# Altium schematic symbol library Crystals SMD.SchLib: 3 symbols
Pins are listed as number, name and electrical type; pins without a type are passive.

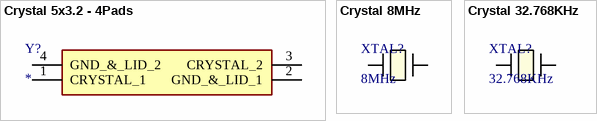
[diagram p0: symbols Crystal 5x3.2 - 4Pads to Crystal 32.768KHz]

## Crystal 5x3.2 - 4Pads
designator Y?
Crystal or Oscillator; Manufacturer_Name: Wurth Elektronik; Manufacturer_Part_Number: 830106162701; Description: Crystals WE-XTAL 8.0MHz 30ppm 5.0 x 3.2mm; Datasheet Link: https://www.we-online.com/components/products/datasheet/830106162701.pdf; Height: 1mm; Mouser Part Number: 710-830106162701; Mouser Price/Stock: https://www.mouser.co.uk/ProductDetail/Wurth-Elektronik/830106162701?qs=hd1VzrDQEGiB2nVeND4SIw%3D%3D
footprint Crystal 5x3.2 - 4Pads
pins: 1 CRYSTAL_1, 2 GND_&_LID_1, 3 CRYSTAL_2, 4 GND_&_LID_2

## Crystal 8MHz
designator XTAL?, comment 8MHz
5032; Mfr_Name: Epson; Manufacturer_Part_Number: SC32A-12.5PF20PPM; Copyright: Copyright (C) 2024 Ultra Librarian. All rights reserved.; RefDes: RefDes; Type: DEV
footprint Crystal 8MHz (5032)
pins: 1, 2

## Crystal 32.768KHz
designator XTAL?, comment 32.768KHz
3.2mmx1.5mm; Mfr_Name: Epson; Manufacturer_Part_Number: SC32A-12.5PF20PPM; Copyright: Copyright (C) 2024 Ultra Librarian. All rights reserved.; RefDes: RefDes; Type: DEV
footprint Crystal 32.768KHz (3.2mx1.5mm)
pins: 1, 2